# Altium footprint library ECET231PCBLIB_Rev04.PCBLIB: 19 footprints (part 1 of 2)
Each footprint in its own frame and in the unit in brackets; x right, y up, seen from the top. Pads: shape width x height; smd on the part's side, far side on the other; paste and mask are expansions set on the pad; w line width, h text height; cw(c..) or ccw(c..) is an arc to the next point about the centre after c.
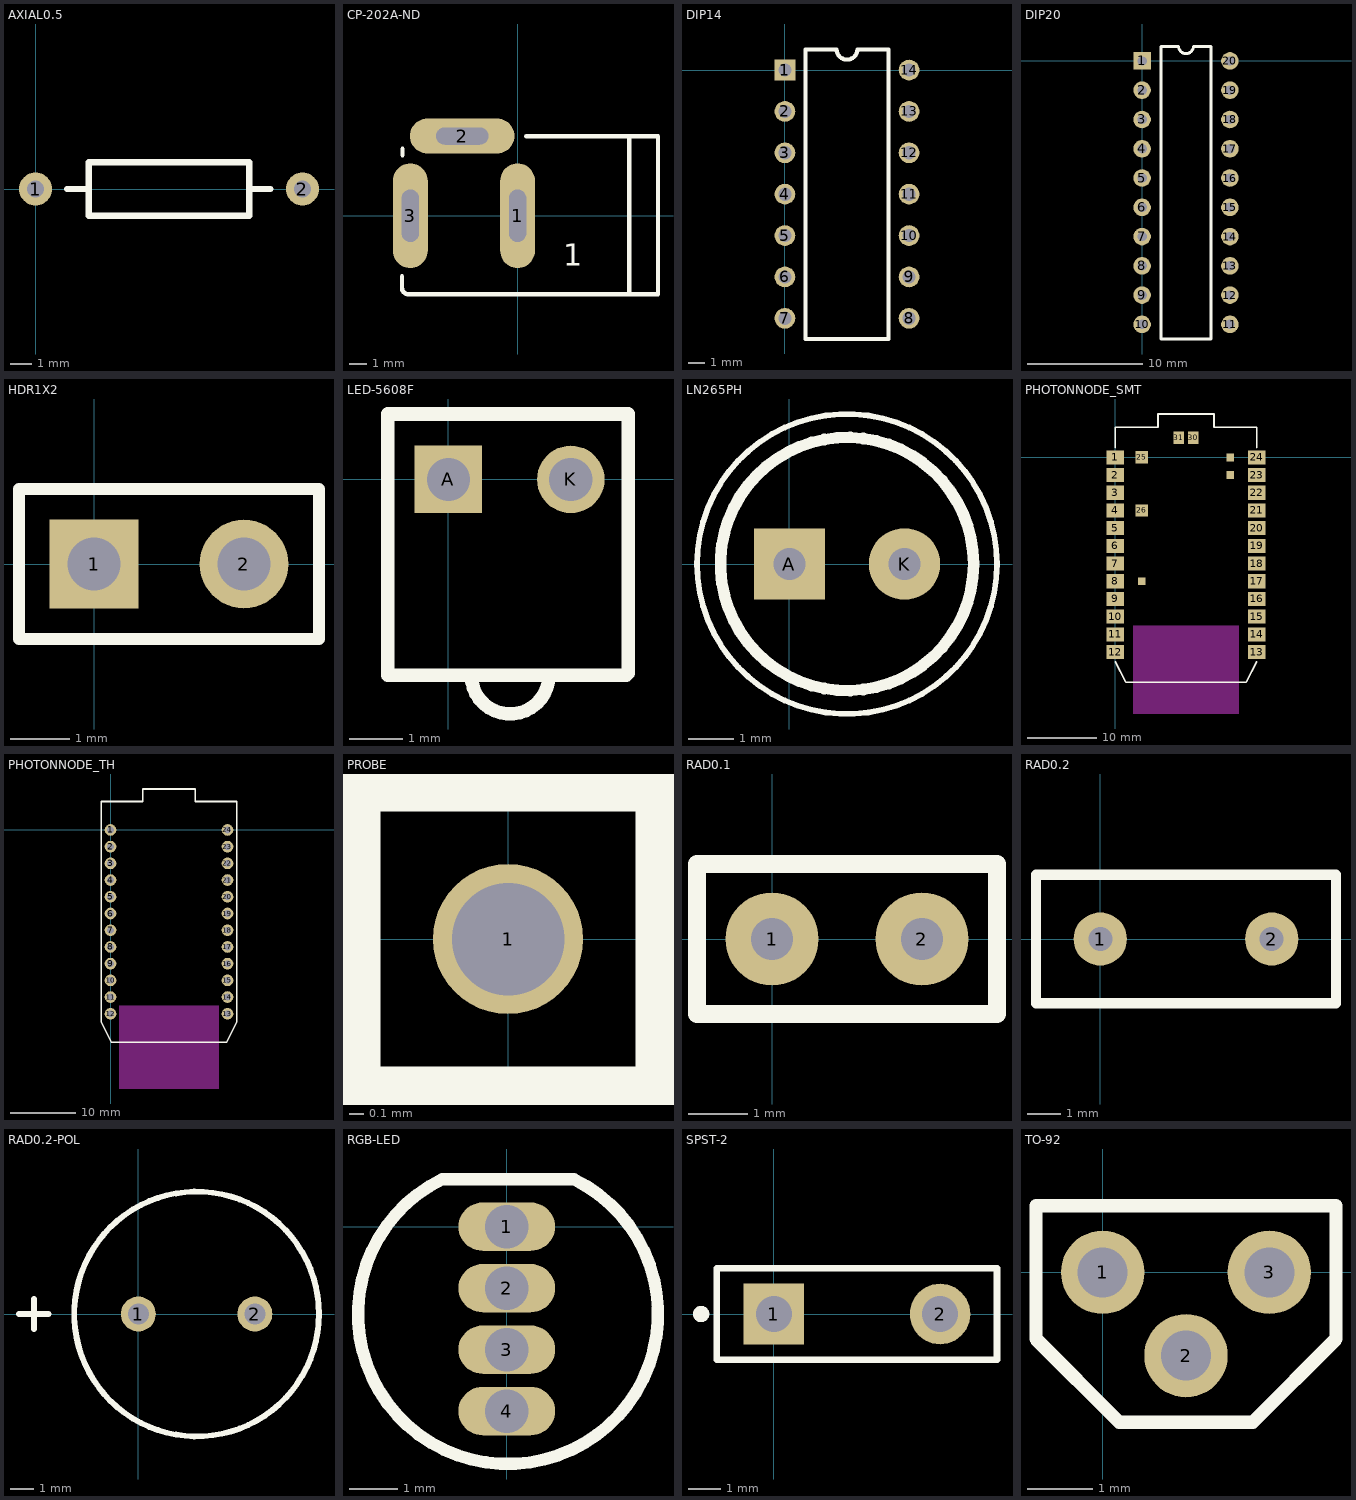
[diagram p0: the footprints below, top view; thin cyan lines are the x and y axes]

## AXIAL0.5 [mil]
pads (2):
  round 62 hole 32: 1(0,0) 2(500,0)
TopOverlay:
  lines w12: 59,0 100,0 ; 401,0 440,0 ; 100,-50 100,50 400,50 400,-50 100,-50
3D body "axial0.5.step": height 179.09, standoff -190, extent -13.76,-74.82 515.76,72.82

## CP-202A-ND [mil]
pads (3):
  oval 80x240 hole 39 slot 120 at 90 deg: 1(0,0) 3(-246.06,0)
  oval 240x80 hole 39 slot 120 at 0 deg: 2(-127.06,182.83)
TopOverlay:
  lines w10: -265,-139 -265,-166 ccw(c-251.4,-166) -251.4,-179.6 ; -264,139 -264,154 ; -253.4,-180.17 300.96,-180.17 ; 20,182 322,182 322,-180.17 298,-180.17 ; 255.9,-177.17 255.9,178.15
  text "1" at 105,-115 h50
3D body "PowerJack-DC-2.5mm-RT.stp": height 437.17, standoff -133.7, extent -272,-179.04 294.93,191.04

## DIP14 [mil]
pads (14):
  rect 50x50 hole 32: 1(0,0)
  round 50 hole 32: 2(0,-100) 3(0,-200) 4(0,-300) 5(0,-400) 6(0,-500) 7(0,-600) 8(300,-600) 9(300,-500) 10(300,-400) 11(300,-300) 12(300,-200) 13(300,-100) 14(300,0)
TopOverlay:
  lines w10: 50,-650 50,50 125,50 ccw(c150,50) 175,50 250,50 250,-650 50,-650
3D body "CircuitWorks-DIP-14.step": height 159.45, standoff -115.35, extent -7.48,-676 307.48,74

## DIP20 [mil]
pads (20):
  rect 60x60 hole 32: 1(0,0)
  round 60 hole 32: 2(0,-100) 3(0,-200) 4(0,-300) 5(0,-400) 6(0,-500) 7(0,-600) 8(0,-700) 9(0,-800) 10(0,-900) 11(300,-900) 12(300,-800) 13(300,-700) 14(300,-600) 15(300,-500) 16(300,-400) 17(300,-300) 18(300,-200) 19(300,-100) 20(300,0)
TopOverlay:
  lines w10: 65,-950 65,50 125,50 ccw(c150,50) 175,50 235,50 235,-950 65,-950

## HDR1X2 [mm]
pads (2):
  rect 1.5x1.5 hole 0.9: 1(0,0)
  round 1.5 hole 0.9: 2(2.54,0)
TopOverlay:
  lines w0.2: -1.27,-1.27 -1.27,1.27 3.81,1.27 3.81,-1.27 -1.27,-1.27

## LED-5608F [mil]
pads (2):
  rect 50x50 hole 32: A(0,0)
  round 50 hole 32: K(90.55,0)
TopOverlay:
  lines w10: 16.93,-144.88 ccw(c45.67,-144.88) 74.41,-144.88 ; 131.5,-144.88 -44.88,-144.88 -44.88,-79.92 -44.88,48.42 133.07,48.42 ; 133.07,-143.31 133.07,-79.13 133.07,48.03

## LN265PH [mil]
pads (2):
  rect 62x62 hole 28: A(0,0)
  round 62 hole 28: K(100,0)
TopOverlay:
  circle w5: c50,0 r130.38
  circle w10: c50,0 r110
3D body "LED.step": height 207.64, standoff -268.74, extent -10.84,-59.06 108.84,59.06

## PHOTONNODE_SMT [mil]
pads (31):
  rect 100x80 smd: 1(0,0) 2(0,-100) 3(0,-200) 4(0,-300) 5(0,-400) 6(0,-500) 7(0,-600) 8(0,-700) 9(0,-800) 10(0,-900) 11(0,-1000) 12(0,-1100) 13(800,-1100) 14(800,-1000) 15(800,-900) 16(800,-800) 17(800,-700) 18(800,-600) 19(800,-500) 20(800,-400) 21(800,-300) 22(800,-200) 23(800,-100) 24(800,0)
  rect 70x70 smd: 25(150,0) 26(150,-300)
  rect 45x45 smd: 27(150,-700) 28(650,-100) 29(650,0)
  rect 60x70 smd: 30(440,110) 31(360,110)
TopOverlay:
  lines w10: 0,-1155 60,-1270 740,-1270 800,-1155 ; 0,55 0,170 242,170 242,245 558,245 558,170 800,170 800,55
KeepOutLayer:
  rectangle: 100,-1450 700,-950

## PHOTONNODE_TH [mil]
pads (24):
  round 70 hole 40: 1(0,0) 2(0,-100) 3(0,-200) 4(0,-300) 5(0,-400) 6(0,-500) 7(0,-600) 8(0,-700) 9(0,-800) 10(0,-900) 11(0,-1000) 12(0,-1100) 13(700,-1100) 14(700,-1000) 15(700,-900) 16(700,-800) 17(700,-700) 18(700,-600) 19(700,-500) 20(700,-400) 21(700,-300) 22(700,-200) 23(700,-100) 24(700,0)
TopOverlay:
  lines w10: -55,-1150 5,-1270 695,-1270 755,-1150 755,170 508,170 508,245 192,245 192,170 -55,170 -55,-1150
KeepOutLayer:
  rectangle: 50,-1550 650,-1050

## PROBE [mil]
pads (1):
  round 40 hole 30: 1(0,0)
TopOverlay:
  lines w12: -40,-40 -40,40 40,40 40,-40 -40,-40
3D body: height 220, standoff 180, extent -431.69,-18.94 -31.69,21.06
3D body: height 300, standoff 0, extent -33,-33 33,33
3D body: height 20, standoff -100, extent -12,-12 12,12

## RAD0.1 [mil]
pads (2):
  round 62 hole 28: 1(0,0) 2(100,0)
TopOverlay:
  lines w12: -50,-50 150,-50 150,50 -50,50 -50,-50

## RAD0.2 [mil]
pads (2):
  round 62 hole 28: 1(0,0) 2(200,0)
TopOverlay:
  lines w12: -75,-75 275,-75 275,75 -75,75 -75,-75
3D body "CAP-Rad0.2-NPL.step": height 290, standoff -88.74, extent -11,-60.5 209,64.5

## RAD0.2-POL [mm] "Capacitor (Radial); 2 Leads"
pads (2):
  round 1.5 hole 0.9: 1(0,0) 2(5,0)
TopOverlay:
  circle w0.25: c2.5,0 r5.25
  lines w0.254: -5.12,0 -3.85,0 ; -4.485,-0.635 -4.485,0.635
Mechanical1:
  circle w0.02: c2.5,0 r5.25
3D body "CAP-Rad0.2-POL.step": height 20.35, standoff -4.47, extent -2.5,-4.997 7.5,4.997

## RGB-LED [mm]
pads (4):
  oval 2x1 hole 0.9: 1(0,0) 2(0,-1.27) 3(0,-2.54) 4(0,-3.81)
TopOverlay:
  lines w0.254: -1.332,0.984 ccw(c0.025,-1.803) 1.388,0.981 -1.332,0.984

## SPST-2 [mm] "Switch; 2 Leads"
pads (2):
  rect 1.85x1.85 hole 1.1: 1(0,0)
  round 1.85 hole 1.1: 2(5.08,0)
TopOverlay:
  circle w0.25: c-2.221,-0.001 r0.125
  lines w0.2: -1.74,-1.397 6.82,-1.397 6.82,1.397 -1.74,1.397 -1.74,-1.397

## TO-92 [mil]
pads (3):
  round 50 hole 30: 1(0,0) 2(50,-50) 3(100,0)
TopOverlay:
  lines w8: -40,-40 10,-90 90,-90 140,-40 140,40 -40,40 -40,-40